# EAGLE library part MMA8452Q (library SparkFun-Sensors_Smight)
NXP MMA8452Q 3-Axis Digital Accelerometer The MMA8452Q is a smart low-power, three-axis, capacitive MEMS accelerometer with 12 bits of resolution. This accelerometer is packed with embedded functions with flexible user programmable options, configurable to two interrupt pins. Supply Voltage: 1.6-3.6V Range: +/- 2g, 4g, 8g Interface: I2C, 12-bit and 8-bit ODR: 1.56 Hz - 800 Hz Package: QFN-16 Datasheet <http://cache.freescale.com/files/sensors/doc/data_sheet/MMA8452Q.pdf> SparkFun Products SparkFun Triple Axis Accelerometer Breakout - MMA8452Q <https://www.sparkfun.com/products/12756> (SEN-12756) SparkFun RedBot Sensor - Accelerometer <https://www.sparkfun.com/products/12589> (SEN-12589)
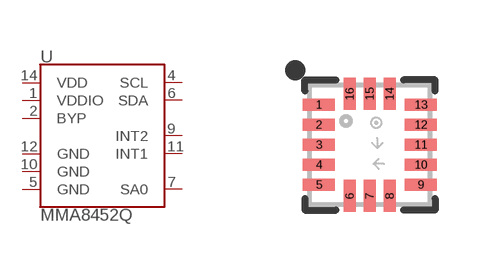
[diagram p10: symbol with the pads of QFN-16; footprint QFN-16]

Designator prefix U

## MMA8452Q (PROD_ID: IC-10769)  [QFN-16]
1  VDDIO
2  BYP
4  SCL
5  GND
6  SDA
7  SA0
9  INT2
10  GND
11  INT1
12  GND
14  VDD

## Footprint QFN-16 (pad centres in mm)
16-Pin Quad Flat No-Lead (QFN) (3 x 3 mm) Datasheet <http://www.nxp.com/files/sensors/doc/data_sheet/MMA8452Q.pdf>. Layout based on app note AN4077 <http://cache.freescale.com/files/sensors/doc/app_note/AN4077.pdf> Specifications: Pin Count: 16 Dimensions: 3.0 x 3.0 x 1.0 mm Pitch: 0.5 mm Devices Using: MMA8452Q
smd 0.8 x 0.3: 1 -1.275,1; 2 -1.275,0.5; 3 -1.275,0; 4 -1.275,-0.5; 5 -1.275,-1; 9 1.275,-1; 10 1.275,-0.5; 11 1.275,0; 12 1.275,0.5; 13 1.275,1
smd 0.3 x 0.8: 6 -0.5,-1.275; 7 0,-1.275; 8 0.5,-1.275; 14 0.5,1.275; 15 0,1.275; 16 -0.5,1.275